# Altium schematic symbol library SCH - POWER - SWITCHMODE - TI TPS51220A-Q1_RTV_32.SchLib: 1 symbol
Pins are listed as number, name and electrical type; pins without a type are passive.

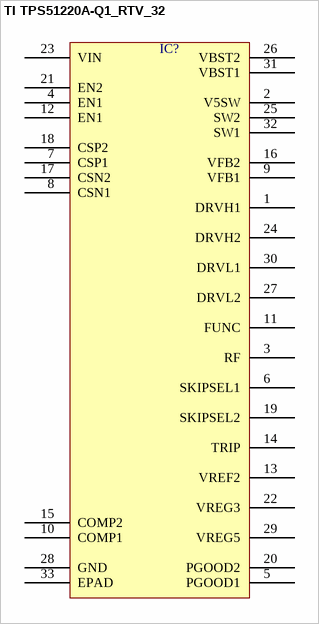
[diagram p0: symbol TI TPS51220A-Q1_RTV_32]

## TI TPS51220A-Q1_RTV_32
designator IC?  (value not drawn)
pins: 1 DRVH1, 2 V5SW, 3 RF, 4 EN1, 5 PGOOD1, 6 SKIPSEL1, 7 CSP1, 8 CSN1, 9 VFB1, 10 COMP1, 11 FUNC, 12 EN1, 13 VREF2, 14 TRIP, 15 COMP2, 16 VFB2, 17 CSN2, 18 CSP2, 19 SKIPSEL2, 20 PGOOD2, 21 EN2, 22 VREG3, 23 VIN, 24 DRVH2, 25 SW2, 26 VBST2, 27 DRVL2, 28 GND, 29 VREG5, 30 DRVL1, 31 VBST1, 32 SW1, 33 EPAD